# Altium footprint library Button_Switch_SMD.PcbLib: 169 footprints (part 5 of 12)
Each footprint in its own frame and in the unit in brackets; x right, y up, seen from the top. Pads: shape width x height; smd on the part's side, far side on the other; paste and mask are expansions set on the pad; w line width, h text height; cw(c..) or ccw(c..) is an arc to the next point about the centre after c.
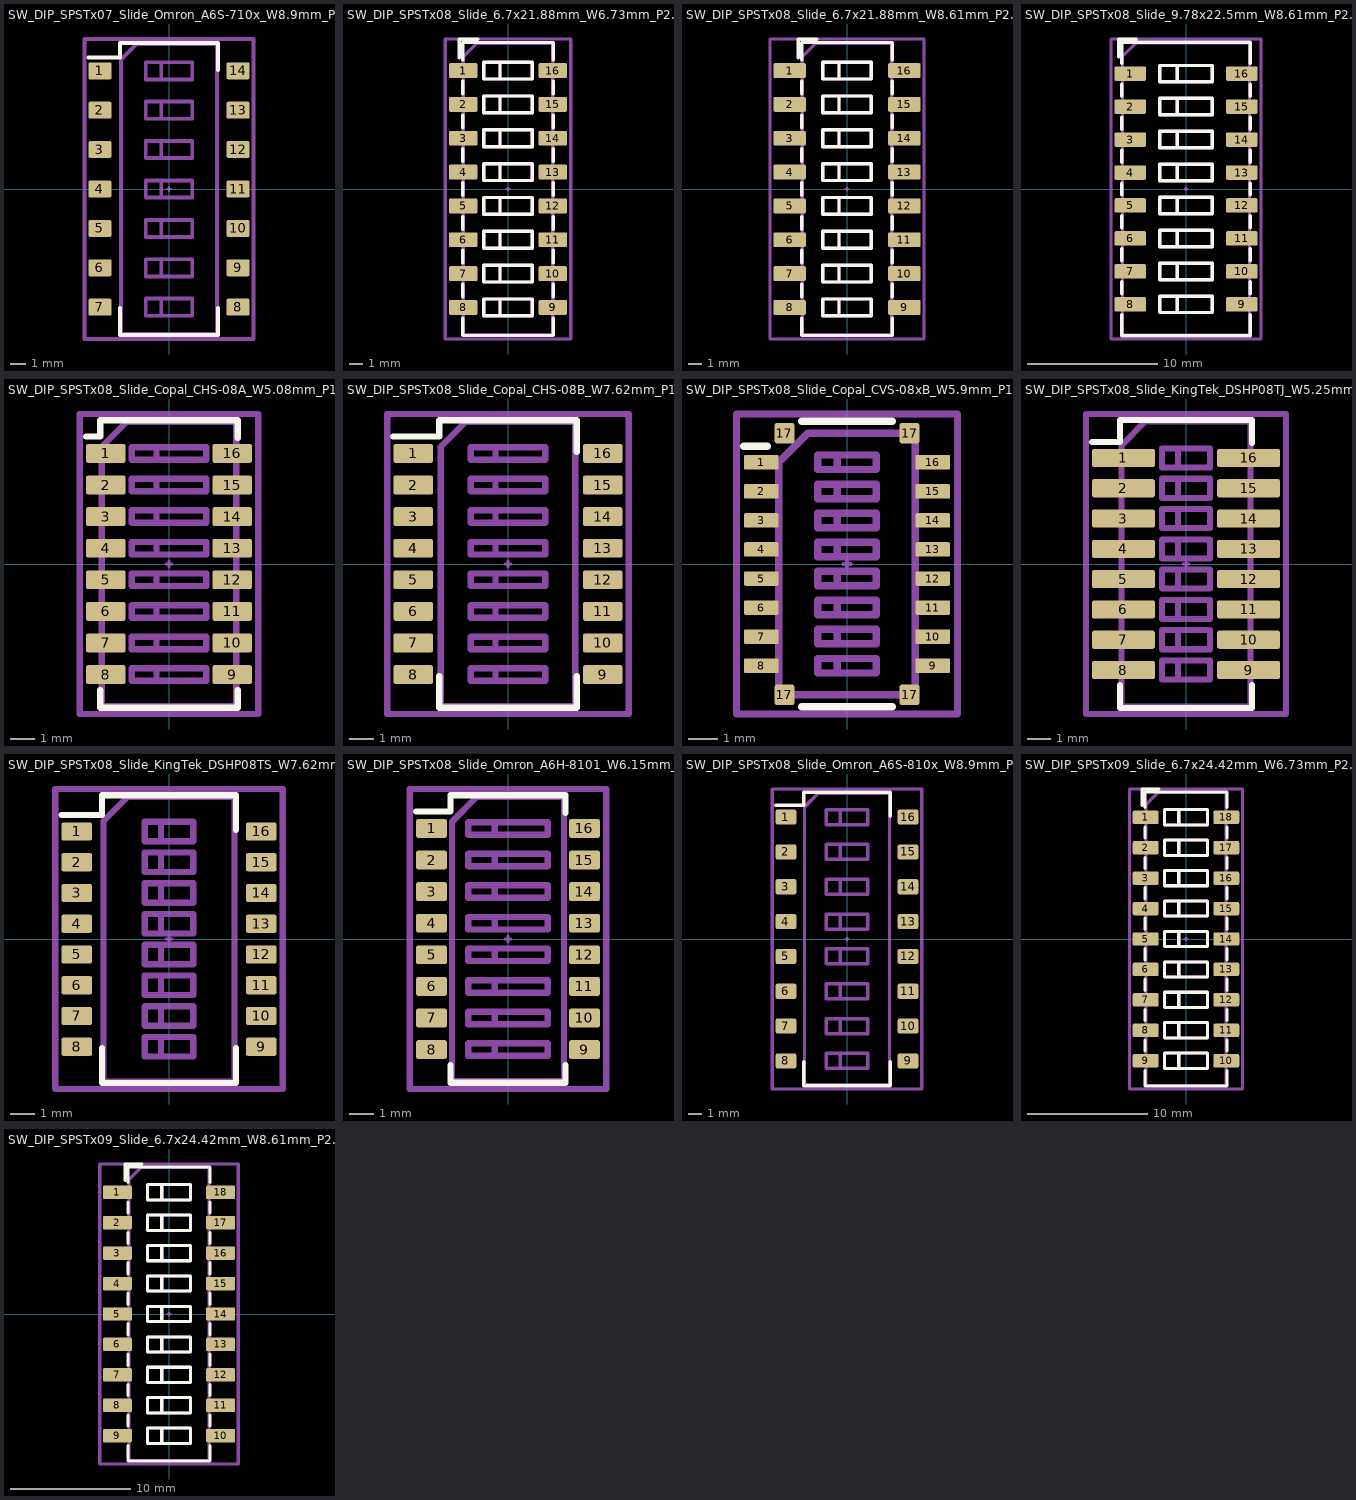
[diagram p4: the footprints below, top view; thin cyan lines are the x and y axes]

## SW_DIP_SPSTx07_Slide_Omron_A6S-710x_W8.9mm_P2.54mm [mm] "SW_DIP_SPSTx07_Slide_Omron_A6S-710x_W8.9mm_P2.54mm"
pads (14):
  rrect23% 1.5x1.1 smd: 1(-4.45,7.62) 2(-4.45,5.08) 3(-4.45,2.54) 4(-4.45,0) 5(-4.45,-2.54) 6(-4.45,-5.08) 7(-4.45,-7.62) 8(4.45,-7.62) 9(4.45,-5.08) 10(4.45,-2.54) 11(4.45,0) 12(4.45,2.54) 13(4.45,5.08) 14(4.45,7.62)
F.SilkS:
  lines w0.254: -5.2,8.47 -3.16,8.47 -3.16,9.42 3.16,9.42 3.16,7.68 ; -3.16,-7.68 -3.16,-9.42 3.16,-9.42 3.16,-7.68
Top Component Center:
  lines w0.127: -0.127,0 0.127,0 ; 0,-0.127 0,0.127
Top Assembly:
  lines w0.254: -1.5,-8.17 -1.5,-7.07 ; -1.5,-8.17 -0.5,-8.17 ; -1.5,-8.17 -1.5,-7.07 ; -1.5,-8.17 1.5,-8.17 1.5,-7.07 -1.5,-7.07 ; -1.5,-7.07 -0.5,-7.07 ; -1.5,-5.63 -1.5,-4.53 ; -1.5,-5.63 -0.5,-5.63 ; -1.5,-5.63 -1.5,-4.53 ; -1.5,-5.63 1.5,-5.63 1.5,-4.53 -1.5,-4.53 ; -1.5,-4.53 -0.5,-4.53 ; -1.5,-3.09 -1.5,-1.99 ; -1.5,-3.09 -0.5,-3.09 ; -1.5,-3.09 -1.5,-1.99 ; -1.5,-3.09 1.5,-3.09 1.5,-1.99 -1.5,-1.99 ; -1.5,-1.99 -0.5,-1.99 ; -1.5,-0.55 -1.5,0.55 ; -1.5,-0.55 -0.5,-0.55 ; -1.5,-0.55 -1.5,0.55 ; -1.5,-0.55 1.5,-0.55 1.5,0.55 -1.5,0.55 ; -1.5,0.55 -0.5,0.55 ; -1.5,1.99 -1.5,3.09 ; -1.5,1.99 -0.5,1.99 ; -1.5,1.99 -1.5,3.09 ; -1.5,1.99 1.5,1.99 1.5,3.09 -1.5,3.09 ; -1.5,3.09 -0.5,3.09 ; -1.5,4.53 -1.5,5.63 ; -1.5,4.53 -0.5,4.53 ; -1.5,4.53 -1.5,5.63 ; -1.5,4.53 1.5,4.53 1.5,5.63 -1.5,5.63 ; -1.5,5.63 -0.5,5.63 ; -1.5,7.07 -1.5,8.17 ; -1.5,7.07 -0.5,7.07 ; -1.5,7.07 -1.5,8.17 ; -1.5,7.07 1.5,7.07 1.5,8.17 -1.5,8.17 ; -1.5,8.17 -0.5,8.17 ; -0.5,-8.17 -0.5,-7.07 ; -0.5,-8.17 -0.5,-7.07 ; -0.5,-5.63 -0.5,-4.53 ; -0.5,-5.63 -0.5,-4.53 ; -0.5,-3.09 -0.5,-1.99 ; -0.5,-3.09 -0.5,-1.99 ; -0.5,-0.55 -0.5,0.55 ; -0.5,-0.55 -0.5,0.55 ; -0.5,1.99 -0.5,3.09 ; -0.5,1.99 -0.5,3.09 ; -0.5,4.53 -0.5,5.63 ; -0.5,4.53 -0.5,5.63 ; -0.5,7.07 -0.5,8.17 ; -0.5,7.07 -0.5,8.17 ; -3.1,-9.36 -3.1,8.36 -2.1,9.36 3.1,9.36 3.1,-9.36 -3.1,-9.36
  text "on" at -0.59,8.378 h0.8
Top Courtyard:
  lines w0.254: -5.45,-9.67 -5.45,9.67 5.45,9.67 5.45,-9.67 -5.45,-9.67
Top Designator:
  text ".Designator" at -2.504,3.559 h1.52
3D body "SW_DIP_SPSTx07_Slide_Omron_A6S-710x_W8.9mm_P2.54mm.step": height 3.1, standoff 0.03, extent -4.9,-9.36 4.9,9.36

## SW_DIP_SPSTx08_Slide_6.7x21.88mm_W6.73mm_P2.54mm_LowProfile_JPin [mm] "SW_DIP_SPSTx08_Slide_6.7x21.88mm_W6.73mm_P2.54mm_LowProfile_JPin"
pads (16):
  rrect22% 2.16x1.12 smd: 1(-3.365,8.89) 2(-3.365,6.35) 3(-3.365,3.81) 4(-3.365,1.27) 5(-3.365,-1.27) 6(-3.365,-3.81) 7(-3.365,-6.35) 8(-3.365,-8.89) 9(3.365,-8.89) 10(3.365,-6.35) 11(3.365,-3.81) 12(3.365,-1.27) 13(3.365,1.27) 14(3.365,3.81) 15(3.365,6.35) 16(3.365,8.89)
F.SilkS:
  lines w0.254: -3.65,9.857 -3.65,11.24 -2.267,11.24 ; -3.41,-9.69 -3.41,-11 3.41,-11 3.41,-9.69 ; -3.41,-8.09 -3.41,-7.15 ; -3.41,-5.55 -3.41,-4.61 ; -3.41,-3.01 -3.41,-2.07 ; -3.41,-0.47 -3.41,0.47 ; -3.41,2.07 -3.41,3.01 ; -3.41,4.61 -3.41,5.55 ; -3.41,7.15 -3.41,8.09 ; -3.41,9.69 -3.41,11 3.41,11 3.41,9.69 ; 3.41,-8.09 3.41,-7.15 ; 3.41,-5.55 3.41,-4.61 ; 3.41,-3.01 3.41,-2.07 ; 3.41,-0.47 3.41,0.47 ; 3.41,2.07 3.41,3.01 ; 3.41,4.61 3.41,5.55 ; 3.41,7.15 3.41,8.09 ; -1.81,-9.525 1.81,-9.525 1.81,-8.255 -1.81,-8.255 ; -1.81,-9.525 -1.81,-8.255 ; -1.81,-9.525 -0.603,-9.525 ; -1.81,-9.525 -1.81,-8.255 ; -1.81,-8.255 -0.603,-8.255 ; -1.81,-6.985 1.81,-6.985 1.81,-5.715 -1.81,-5.715 ; -1.81,-6.985 -1.81,-5.715 ; -1.81,-6.985 -0.603,-6.985 ; -1.81,-6.985 -1.81,-5.715 ; -1.81,-5.715 -0.603,-5.715 ; -1.81,-4.445 1.81,-4.445 1.81,-3.175 -1.81,-3.175 ; -1.81,-4.445 -1.81,-3.175 ; -1.81,-4.445 -0.603,-4.445 ; -1.81,-4.445 -1.81,-3.175 ; -1.81,-3.175 -0.603,-3.175 ; -1.81,-1.905 1.81,-1.905 1.81,-0.635 -1.81,-0.635 ; -1.81,-1.905 -1.81,-0.635 ; -1.81,-1.905 -0.603,-1.905 ; -1.81,-1.905 -1.81,-0.635 ; -1.81,-0.635 -0.603,-0.635 ; -1.81,0.635 1.81,0.635 1.81,1.905 -1.81,1.905 ; -1.81,0.635 -1.81,1.905 ; -1.81,0.635 -0.603,0.635 ; -1.81,0.635 -1.81,1.905 ; -1.81,1.905 -0.603,1.905 ; -1.81,3.175 1.81,3.175 1.81,4.445 -1.81,4.445 ; -1.81,3.175 -1.81,4.445 ; -1.81,3.175 -0.603,3.175 ; -1.81,3.175 -1.81,4.445 ; -1.81,4.445 -0.603,4.445 ; -1.81,5.715 1.81,5.715 1.81,6.985 -1.81,6.985 ; -1.81,5.715 -1.81,6.985 ; -1.81,5.715 -0.603,5.715 ; -1.81,5.715 -1.81,6.985 ; -1.81,6.985 -0.603,6.985 ; -1.81,8.255 1.81,8.255 1.81,9.525 -1.81,9.525 ; -1.81,8.255 -1.81,9.525 ; -1.81,8.255 -0.603,8.255 ; -1.81,8.255 -1.81,9.525 ; -1.81,9.525 -0.603,9.525 ; -0.603,-9.525 -0.603,-8.255 ; -0.603,-9.525 -0.603,-8.255 ; -0.603,-6.985 -0.603,-5.715 ; -0.603,-6.985 -0.603,-5.715 ; -0.603,-4.445 -0.603,-3.175 ; -0.603,-4.445 -0.603,-3.175 ; -0.603,-1.905 -0.603,-0.635 ; -0.603,-1.905 -0.603,-0.635 ; -0.603,0.635 -0.603,1.905 ; -0.603,0.635 -0.603,1.905 ; -0.603,3.175 -0.603,4.445 ; -0.603,3.175 -0.603,4.445 ; -0.603,5.715 -0.603,6.985 ; -0.603,5.715 -0.603,6.985 ; -0.603,8.255 -0.603,9.525 ; -0.603,8.255 -0.603,9.525
Top Component Center:
  lines w0.127: -0.127,0 0.127,0 ; 0,-0.127 0,0.127
Top Assembly:
  lines w0.254: -1.81,-9.525 1.81,-9.525 1.81,-8.255 -1.81,-8.255 ; -1.81,-9.525 -1.81,-8.255 ; -1.81,-9.525 -0.603,-9.525 ; -1.81,-9.525 -1.81,-8.255 ; -1.81,-8.255 -0.603,-8.255 ; -1.81,-6.985 1.81,-6.985 1.81,-5.715 -1.81,-5.715 ; -1.81,-6.985 -1.81,-5.715 ; -1.81,-6.985 -0.603,-6.985 ; -1.81,-6.985 -1.81,-5.715 ; -1.81,-5.715 -0.603,-5.715 ; -1.81,-4.445 1.81,-4.445 1.81,-3.175 -1.81,-3.175 ; -1.81,-4.445 -1.81,-3.175 ; -1.81,-4.445 -0.603,-4.445 ; -1.81,-4.445 -1.81,-3.175 ; -1.81,-3.175 -0.603,-3.175 ; -1.81,-1.905 1.81,-1.905 1.81,-0.635 -1.81,-0.635 ; -1.81,-1.905 -1.81,-0.635 ; -1.81,-1.905 -0.603,-1.905 ; -1.81,-1.905 -1.81,-0.635 ; -1.81,-0.635 -0.603,-0.635 ; -1.81,0.635 1.81,0.635 1.81,1.905 -1.81,1.905 ; -1.81,0.635 -1.81,1.905 ; -1.81,0.635 -0.603,0.635 ; -1.81,0.635 -1.81,1.905 ; -1.81,1.905 -0.603,1.905 ; -1.81,3.175 1.81,3.175 1.81,4.445 -1.81,4.445 ; -1.81,3.175 -1.81,4.445 ; -1.81,3.175 -0.603,3.175 ; -1.81,3.175 -1.81,4.445 ; -1.81,4.445 -0.603,4.445 ; -1.81,5.715 1.81,5.715 1.81,6.985 -1.81,6.985 ; -1.81,5.715 -1.81,6.985 ; -1.81,5.715 -0.603,5.715 ; -1.81,5.715 -1.81,6.985 ; -1.81,6.985 -0.603,6.985 ; -1.81,8.255 1.81,8.255 1.81,9.525 -1.81,9.525 ; -1.81,8.255 -1.81,9.525 ; -1.81,8.255 -0.603,8.255 ; -1.81,8.255 -1.81,9.525 ; -1.81,9.525 -0.603,9.525 ; -0.603,-9.525 -0.603,-8.255 ; -0.603,-9.525 -0.603,-8.255 ; -0.603,-6.985 -0.603,-5.715 ; -0.603,-6.985 -0.603,-5.715 ; -0.603,-4.445 -0.603,-3.175 ; -0.603,-4.445 -0.603,-3.175 ; -0.603,-1.905 -0.603,-0.635 ; -0.603,-1.905 -0.603,-0.635 ; -0.603,0.635 -0.603,1.905 ; -0.603,0.635 -0.603,1.905 ; -0.603,3.175 -0.603,4.445 ; -0.603,3.175 -0.603,4.445 ; -0.603,5.715 -0.603,6.985 ; -0.603,5.715 -0.603,6.985 ; -0.603,8.255 -0.603,9.525 ; -0.603,8.255 -0.603,9.525 ; -3.35,-10.94 3.35,-10.94 3.35,10.94 -2.35,10.94 -3.35,9.94 -3.35,-10.94
  text "on" at 0.233,9.846 h0.8
Top Courtyard:
  lines w0.254: -4.7,-11.26 4.7,-11.26 4.7,11.26 -4.7,11.26 -4.7,-11.26
Top Designator:
  text ".Designator" at -3.432,-0.345 h1.52
3D body "SW_DIP_SPSTx08_Slide_6.7x21.88mm_W6.73mm_P2.54mm_LowProfile_JPin.step": height 3.2, standoff -0.1, extent -3.45,-10.94 3.45,10.94

## SW_DIP_SPSTx08_Slide_6.7x21.88mm_W8.61mm_P2.54mm_LowProfile [mm] "SW_DIP_SPSTx08_Slide_6.7x21.88mm_W8.61mm_P2.54mm_LowProfile"
pads (16):
  rrect22% 2.44x1.12 smd: 1(-4.305,8.89) 2(-4.305,6.35) 3(-4.305,3.81) 4(-4.305,1.27) 5(-4.305,-1.27) 6(-4.305,-3.81) 7(-4.305,-6.35) 8(-4.305,-8.89) 9(4.305,-8.89) 10(4.305,-6.35) 11(4.305,-3.81) 12(4.305,-1.27) 13(4.305,1.27) 14(4.305,3.81) 15(4.305,6.35) 16(4.305,8.89)
F.SilkS:
  lines w0.254: -3.65,9.857 -3.65,11.24 -2.267,11.24 ; -3.41,-9.69 -3.41,-11 3.41,-11 3.41,-9.69 ; -3.41,-8.09 -3.41,-7.15 ; -3.41,-5.55 -3.41,-4.61 ; -3.41,-3.01 -3.41,-2.07 ; -3.41,-0.47 -3.41,0.47 ; -3.41,2.07 -3.41,3.01 ; -3.41,4.61 -3.41,5.55 ; -3.41,7.15 -3.41,8.09 ; -3.41,9.69 -3.41,11 3.41,11 3.41,9.69 ; 3.41,-8.09 3.41,-7.15 ; 3.41,-5.55 3.41,-4.61 ; 3.41,-3.01 3.41,-2.07 ; 3.41,-0.47 3.41,0.47 ; 3.41,2.07 3.41,3.01 ; 3.41,4.61 3.41,5.55 ; 3.41,7.15 3.41,8.09 ; -1.81,-9.525 -1.81,-8.255 ; -1.81,-9.525 -0.603,-9.525 ; -1.81,-9.525 -1.81,-8.255 ; -1.81,-9.525 1.81,-9.525 1.81,-8.255 -1.81,-8.255 ; -1.81,-8.255 -0.603,-8.255 ; -1.81,-6.985 -1.81,-5.715 ; -1.81,-6.985 -0.603,-6.985 ; -1.81,-6.985 -1.81,-5.715 ; -1.81,-6.985 1.81,-6.985 1.81,-5.715 -1.81,-5.715 ; -1.81,-5.715 -0.603,-5.715 ; -1.81,-4.445 -1.81,-3.175 ; -1.81,-4.445 -0.603,-4.445 ; -1.81,-4.445 -1.81,-3.175 ; -1.81,-4.445 1.81,-4.445 1.81,-3.175 -1.81,-3.175 ; -1.81,-3.175 -0.603,-3.175 ; -1.81,-1.905 -1.81,-0.635 ; -1.81,-1.905 -0.603,-1.905 ; -1.81,-1.905 -1.81,-0.635 ; -1.81,-1.905 1.81,-1.905 1.81,-0.635 -1.81,-0.635 ; -1.81,-0.635 -0.603,-0.635 ; -1.81,0.635 -1.81,1.905 ; -1.81,0.635 -0.603,0.635 ; -1.81,0.635 -1.81,1.905 ; -1.81,0.635 1.81,0.635 1.81,1.905 -1.81,1.905 ; -1.81,1.905 -0.603,1.905 ; -1.81,3.175 -1.81,4.445 ; -1.81,3.175 -0.603,3.175 ; -1.81,3.175 -1.81,4.445 ; -1.81,3.175 1.81,3.175 1.81,4.445 -1.81,4.445 ; -1.81,4.445 -0.603,4.445 ; -1.81,5.715 -1.81,6.985 ; -1.81,5.715 -0.603,5.715 ; -1.81,5.715 -1.81,6.985 ; -1.81,5.715 1.81,5.715 1.81,6.985 -1.81,6.985 ; -1.81,6.985 -0.603,6.985 ; -1.81,8.255 -1.81,9.525 ; -1.81,8.255 -0.603,8.255 ; -1.81,8.255 -1.81,9.525 ; -1.81,8.255 1.81,8.255 1.81,9.525 -1.81,9.525 ; -1.81,9.525 -0.603,9.525 ; -0.603,-9.525 -0.603,-8.255 ; -0.603,-9.525 -0.603,-8.255 ; -0.603,-6.985 -0.603,-5.715 ; -0.603,-6.985 -0.603,-5.715 ; -0.603,-4.445 -0.603,-3.175 ; -0.603,-4.445 -0.603,-3.175 ; -0.603,-1.905 -0.603,-0.635 ; -0.603,-1.905 -0.603,-0.635 ; -0.603,0.635 -0.603,1.905 ; -0.603,0.635 -0.603,1.905 ; -0.603,3.175 -0.603,4.445 ; -0.603,3.175 -0.603,4.445 ; -0.603,5.715 -0.603,6.985 ; -0.603,5.715 -0.603,6.985 ; -0.603,8.255 -0.603,9.525 ; -0.603,8.255 -0.603,9.525
Top Component Center:
  lines w0.127: -0.127,0 0.127,0 ; 0,-0.127 0,0.127
Top Assembly:
  lines w0.254: -1.81,-9.525 -1.81,-8.255 ; -1.81,-9.525 -0.603,-9.525 ; -1.81,-9.525 -1.81,-8.255 ; -1.81,-9.525 1.81,-9.525 1.81,-8.255 -1.81,-8.255 ; -1.81,-8.255 -0.603,-8.255 ; -1.81,-6.985 -1.81,-5.715 ; -1.81,-6.985 -0.603,-6.985 ; -1.81,-6.985 -1.81,-5.715 ; -1.81,-6.985 1.81,-6.985 1.81,-5.715 -1.81,-5.715 ; -1.81,-5.715 -0.603,-5.715 ; -1.81,-4.445 -1.81,-3.175 ; -1.81,-4.445 -0.603,-4.445 ; -1.81,-4.445 -1.81,-3.175 ; -1.81,-4.445 1.81,-4.445 1.81,-3.175 -1.81,-3.175 ; -1.81,-3.175 -0.603,-3.175 ; -1.81,-1.905 -1.81,-0.635 ; -1.81,-1.905 -0.603,-1.905 ; -1.81,-1.905 -1.81,-0.635 ; -1.81,-1.905 1.81,-1.905 1.81,-0.635 -1.81,-0.635 ; -1.81,-0.635 -0.603,-0.635 ; -1.81,0.635 -1.81,1.905 ; -1.81,0.635 -0.603,0.635 ; -1.81,0.635 -1.81,1.905 ; -1.81,0.635 1.81,0.635 1.81,1.905 -1.81,1.905 ; -1.81,1.905 -0.603,1.905 ; -1.81,3.175 -1.81,4.445 ; -1.81,3.175 -0.603,3.175 ; -1.81,3.175 -1.81,4.445 ; -1.81,3.175 1.81,3.175 1.81,4.445 -1.81,4.445 ; -1.81,4.445 -0.603,4.445 ; -1.81,5.715 -1.81,6.985 ; -1.81,5.715 -0.603,5.715 ; -1.81,5.715 -1.81,6.985 ; -1.81,5.715 1.81,5.715 1.81,6.985 -1.81,6.985 ; -1.81,6.985 -0.603,6.985 ; -1.81,8.255 -1.81,9.525 ; -1.81,8.255 -0.603,8.255 ; -1.81,8.255 -1.81,9.525 ; -1.81,8.255 1.81,8.255 1.81,9.525 -1.81,9.525 ; -1.81,9.525 -0.603,9.525 ; -0.603,-9.525 -0.603,-8.255 ; -0.603,-9.525 -0.603,-8.255 ; -0.603,-6.985 -0.603,-5.715 ; -0.603,-6.985 -0.603,-5.715 ; -0.603,-4.445 -0.603,-3.175 ; -0.603,-4.445 -0.603,-3.175 ; -0.603,-1.905 -0.603,-0.635 ; -0.603,-1.905 -0.603,-0.635 ; -0.603,0.635 -0.603,1.905 ; -0.603,0.635 -0.603,1.905 ; -0.603,3.175 -0.603,4.445 ; -0.603,3.175 -0.603,4.445 ; -0.603,5.715 -0.603,6.985 ; -0.603,5.715 -0.603,6.985 ; -0.603,8.255 -0.603,9.525 ; -0.603,8.255 -0.603,9.525 ; -3.35,-10.94 -3.35,9.94 -2.35,10.94 3.35,10.94 3.35,-10.94 -3.35,-10.94
  text "on" at -0.237,9.846 h0.8
Top Courtyard:
  lines w0.254: -5.78,-11.26 -5.78,11.26 5.78,11.26 5.78,-11.26 -5.78,-11.26
Top Designator:
  text ".Designator" at -3.432,-0.345 h1.52
3D body "SW_DIP_SPSTx08_Slide_6.7x21.88mm_W8.61mm_P2.54mm_LowProfile.step": height 2.7, standoff 0, extent -4.305,-10.94 4.305,10.94

## SW_DIP_SPSTx08_Slide_9.78x22.5mm_W8.61mm_P2.54mm [mm] "SW_DIP_SPSTx08_Slide_9.78x22.5mm_W8.61mm_P2.54mm"
pads (16):
  rrect22% 2.44x1.12 smd: 1(-4.305,8.89) 2(-4.305,6.35) 3(-4.305,3.81) 4(-4.305,1.27) 5(-4.305,-1.27) 6(-4.305,-3.81) 7(-4.305,-6.35) 8(-4.305,-8.89) 9(4.305,-8.89) 10(4.305,-6.35) 11(4.305,-3.81) 12(4.305,-1.27) 13(4.305,1.27) 14(4.305,3.81) 15(4.305,6.35) 16(4.305,8.89)
F.SilkS:
  lines w0.254: -5.19,10.167 -5.19,11.55 -3.807,11.55 ; -4.95,-9.69 -4.95,-11.31 4.95,-11.31 4.95,-9.69 ; -4.95,-8.09 -4.95,-7.15 ; -4.95,-5.55 -4.95,-4.61 ; -4.95,-3.01 -4.95,-2.07 ; -4.95,-0.47 -4.95,0.47 ; -4.95,2.07 -4.95,3.01 ; -4.95,4.61 -4.95,5.55 ; -4.95,7.15 -4.95,8.09 ; -4.95,9.69 -4.95,11.31 4.95,11.31 4.95,9.69 ; 4.95,-8.09 4.95,-7.15 ; 4.95,-5.55 4.95,-4.61 ; 4.95,-3.01 4.95,-2.07 ; 4.95,-0.47 4.95,0.47 ; 4.95,2.07 4.95,3.01 ; 4.95,4.61 4.95,5.55 ; 4.95,7.15 4.95,8.09 ; -2.03,-9.525 -2.03,-8.255 ; -2.03,-9.525 -0.677,-9.525 ; -2.03,-9.525 -2.03,-8.255 ; -2.03,-9.525 2.03,-9.525 2.03,-8.255 -2.03,-8.255 ; -2.03,-8.255 -0.677,-8.255 ; -2.03,-6.985 -2.03,-5.715 ; -2.03,-6.985 -0.677,-6.985 ; -2.03,-6.985 -2.03,-5.715 ; -2.03,-6.985 2.03,-6.985 2.03,-5.715 -2.03,-5.715 ; -2.03,-5.715 -0.677,-5.715 ; -2.03,-4.445 -2.03,-3.175 ; -2.03,-4.445 -0.677,-4.445 ; -2.03,-4.445 -2.03,-3.175 ; -2.03,-4.445 2.03,-4.445 2.03,-3.175 -2.03,-3.175 ; -2.03,-3.175 -0.677,-3.175 ; -2.03,-1.905 -2.03,-0.635 ; -2.03,-1.905 -0.677,-1.905 ; -2.03,-1.905 -2.03,-0.635 ; -2.03,-1.905 2.03,-1.905 2.03,-0.635 -2.03,-0.635 ; -2.03,-0.635 -0.677,-0.635 ; -2.03,0.635 -2.03,1.905 ; -2.03,0.635 -0.677,0.635 ; -2.03,0.635 -2.03,1.905 ; -2.03,0.635 2.03,0.635 2.03,1.905 -2.03,1.905 ; -2.03,1.905 -0.677,1.905 ; -2.03,3.175 -2.03,4.445 ; -2.03,3.175 -0.677,3.175 ; -2.03,3.175 -2.03,4.445 ; -2.03,3.175 2.03,3.175 2.03,4.445 -2.03,4.445 ; -2.03,4.445 -0.677,4.445 ; -2.03,5.715 -2.03,6.985 ; -2.03,5.715 -0.677,5.715 ; -2.03,5.715 -2.03,6.985 ; -2.03,5.715 2.03,5.715 2.03,6.985 -2.03,6.985 ; -2.03,6.985 -0.677,6.985 ; -2.03,8.255 -2.03,9.525 ; -2.03,8.255 -0.677,8.255 ; -2.03,8.255 -2.03,9.525 ; -2.03,8.255 2.03,8.255 2.03,9.525 -2.03,9.525 ; -2.03,9.525 -0.677,9.525 ; -0.677,-9.525 -0.677,-8.255 ; -0.677,-9.525 -0.677,-8.255 ; -0.677,-6.985 -0.677,-5.715 ; -0.677,-6.985 -0.677,-5.715 ; -0.677,-4.445 -0.677,-3.175 ; -0.677,-4.445 -0.677,-3.175 ; -0.677,-1.905 -0.677,-0.635 ; -0.677,-1.905 -0.677,-0.635 ; -0.677,0.635 -0.677,1.905 ; -0.677,0.635 -0.677,1.905 ; -0.677,3.175 -0.677,4.445 ; -0.677,3.175 -0.677,4.445 ; -0.677,5.715 -0.677,6.985 ; -0.677,5.715 -0.677,6.985 ; -0.677,8.255 -0.677,9.525 ; -0.677,8.255 -0.677,9.525
Top Component Center:
  lines w0.127: -0.127,0 0.127,0 ; 0,-0.127 0,0.127
Top Assembly:
  lines w0.254: -2.03,-9.525 -2.03,-8.255 ; -2.03,-9.525 -0.677,-9.525 ; -2.03,-9.525 -2.03,-8.255 ; -2.03,-9.525 2.03,-9.525 2.03,-8.255 -2.03,-8.255 ; -2.03,-8.255 -0.677,-8.255 ; -2.03,-6.985 -2.03,-5.715 ; -2.03,-6.985 -0.677,-6.985 ; -2.03,-6.985 -2.03,-5.715 ; -2.03,-6.985 2.03,-6.985 2.03,-5.715 -2.03,-5.715 ; -2.03,-5.715 -0.677,-5.715 ; -2.03,-4.445 -2.03,-3.175 ; -2.03,-4.445 -0.677,-4.445 ; -2.03,-4.445 -2.03,-3.175 ; -2.03,-4.445 2.03,-4.445 2.03,-3.175 -2.03,-3.175 ; -2.03,-3.175 -0.677,-3.175 ; -2.03,-1.905 -2.03,-0.635 ; -2.03,-1.905 -0.677,-1.905 ; -2.03,-1.905 -2.03,-0.635 ; -2.03,-1.905 2.03,-1.905 2.03,-0.635 -2.03,-0.635 ; -2.03,-0.635 -0.677,-0.635 ; -2.03,0.635 -2.03,1.905 ; -2.03,0.635 -0.677,0.635 ; -2.03,0.635 -2.03,1.905 ; -2.03,0.635 2.03,0.635 2.03,1.905 -2.03,1.905 ; -2.03,1.905 -0.677,1.905 ; -2.03,3.175 -2.03,4.445 ; -2.03,3.175 -0.677,3.175 ; -2.03,3.175 -2.03,4.445 ; -2.03,3.175 2.03,3.175 2.03,4.445 -2.03,4.445 ; -2.03,4.445 -0.677,4.445 ; -2.03,5.715 -2.03,6.985 ; -2.03,5.715 -0.677,5.715 ; -2.03,5.715 -2.03,6.985 ; -2.03,5.715 2.03,5.715 2.03,6.985 -2.03,6.985 ; -2.03,6.985 -0.677,6.985 ; -2.03,8.255 -2.03,9.525 ; -2.03,8.255 -0.677,8.255 ; -2.03,8.255 -2.03,9.525 ; -2.03,8.255 2.03,8.255 2.03,9.525 -2.03,9.525 ; -2.03,9.525 -0.677,9.525 ; -0.677,-9.525 -0.677,-8.255 ; -0.677,-9.525 -0.677,-8.255 ; -0.677,-6.985 -0.677,-5.715 ; -0.677,-6.985 -0.677,-5.715 ; -0.677,-4.445 -0.677,-3.175 ; -0.677,-4.445 -0.677,-3.175 ; -0.677,-1.905 -0.677,-0.635 ; -0.677,-1.905 -0.677,-0.635 ; -0.677,0.635 -0.677,1.905 ; -0.677,0.635 -0.677,1.905 ; -0.677,3.175 -0.677,4.445 ; -0.677,3.175 -0.677,4.445 ; -0.677,5.715 -0.677,6.985 ; -0.677,5.715 -0.677,6.985 ; -0.677,8.255 -0.677,9.525 ; -0.677,8.255 -0.677,9.525 ; -4.89,-11.25 -4.89,10.25 -3.89,11.25 4.89,11.25 4.89,-11.25 -4.89,-11.25
  text "on" at 0.643,10.001 h0.8
Top Courtyard:
  lines w0.254: -5.78,-11.56 -5.78,11.56 5.78,11.56 5.78,-11.56 -5.78,-11.56
Top Designator:
  text ".Designator" at -3.432,-0.345 h1.52
3D body "SW_DIP_SPSTx08_Slide_9.78x22.5mm_W8.61mm_P2.54mm.step": height 8.6, standoff 0, extent -5.2,-11.25 5.2,11.25

## SW_DIP_SPSTx08_Slide_Copal_CHS-08A_W5.08mm_P1.27mm_JPin [mm] "SW_DIP_SPSTx08_Slide_Copal_CHS-08A_W5.08mm_P1.27mm_JPin"
pads (16):
  rrect25% 1.6x0.76 smd: 1(-2.54,4.445) 2(-2.54,3.175) 3(-2.54,1.905) 4(-2.54,0.635) 5(-2.54,-0.635) 6(-2.54,-1.905) 7(-2.54,-3.175) 8(-2.54,-4.445) 9(2.54,-4.445) 10(2.54,-3.175) 11(2.54,-1.905) 12(2.54,-0.635) 13(2.54,0.635) 14(2.54,1.905) 15(2.54,3.175) 16(2.54,4.445)
F.SilkS:
  lines w0.254: -3.34,5.125 -2.76,5.125 -2.76,5.775 2.76,5.775 2.76,5.065 ; -2.76,-5.065 -2.76,-5.775 2.76,-5.775 2.76,-5.065
Top Component Center:
  lines w0.127: -0.127,0 0.127,0 ; 0,-0.127 0,0.127
Top Assembly:
  lines w0.254: -1.5,-4.695 -1.5,-4.195 ; -1.5,-4.695 -0.5,-4.695 ; -1.5,-4.695 -1.5,-4.195 ; -1.5,-4.695 1.5,-4.695 1.5,-4.195 -1.5,-4.195 ; -1.5,-4.195 -0.5,-4.195 ; -1.5,-3.425 -1.5,-2.925 ; -1.5,-3.425 -0.5,-3.425 ; -1.5,-3.425 -1.5,-2.925 ; -1.5,-3.425 1.5,-3.425 1.5,-2.925 -1.5,-2.925 ; -1.5,-2.925 -0.5,-2.925 ; -1.5,-2.155 -1.5,-1.655 ; -1.5,-2.155 -0.5,-2.155 ; -1.5,-2.155 -1.5,-1.655 ; -1.5,-2.155 1.5,-2.155 1.5,-1.655 -1.5,-1.655 ; -1.5,-1.655 -0.5,-1.655 ; -1.5,-0.885 -1.5,-0.385 ; -1.5,-0.885 -0.5,-0.885 ; -1.5,-0.885 -1.5,-0.385 ; -1.5,-0.885 1.5,-0.885 1.5,-0.385 -1.5,-0.385 ; -1.5,-0.385 -0.5,-0.385 ; -1.5,0.385 -1.5,0.885 ; -1.5,0.385 -0.5,0.385 ; -1.5,0.385 -1.5,0.885 ; -1.5,0.385 1.5,0.385 1.5,0.885 -1.5,0.885 ; -1.5,0.885 -0.5,0.885 ; -1.5,1.655 -1.5,2.155 ; -1.5,1.655 -0.5,1.655 ; -1.5,1.655 -1.5,2.155 ; -1.5,1.655 1.5,1.655 1.5,2.155 -1.5,2.155 ; -1.5,2.155 -0.5,2.155 ; -1.5,2.925 -1.5,3.425 ; -1.5,2.925 -0.5,2.925 ; -1.5,2.925 -1.5,3.425 ; -1.5,2.925 1.5,2.925 1.5,3.425 -1.5,3.425 ; -1.5,3.425 -0.5,3.425 ; -1.5,4.195 -1.5,4.695 ; -1.5,4.195 -0.5,4.195 ; -1.5,4.195 -1.5,4.695 ; -1.5,4.195 1.5,4.195 1.5,4.695 -1.5,4.695 ; -1.5,4.695 -0.5,4.695 ; -0.5,-4.695 -0.5,-4.195 ; -0.5,-4.695 -0.5,-4.195 ; -0.5,-3.425 -0.5,-2.925 ; -0.5,-3.425 -0.5,-2.925 ; -0.5,-2.155 -0.5,-1.655 ; -0.5,-2.155 -0.5,-1.655 ; -0.5,-0.885 -0.5,-0.385 ; -0.5,-0.885 -0.5,-0.385 ; -0.5,0.385 -0.5,0.885 ; -0.5,0.385 -0.5,0.885 ; -0.5,1.655 -0.5,2.155 ; -0.5,1.655 -0.5,2.155 ; -0.5,2.925 -0.5,3.425 ; -0.5,2.925 -0.5,3.425 ; -0.5,4.195 -0.5,4.695 ; -0.5,4.195 -0.5,4.695 ; -2.7,-5.715 -2.7,4.715 -1.7,5.715 2.7,5.715 2.7,-5.715 -2.7,-5.715
  text "on" at 0.165,4.818 h0.8
Top Courtyard:
  lines w0.254: -3.59,-6.03 -3.59,6.03 3.59,6.03 3.59,-6.03 -3.59,-6.03
Top Designator:
  text ".Designator" at -0.345,3.432 h1.52
3D body "SW_DIP_SPSTx08_Slide_Copal_CHS-08A_W5.08mm_P1.27mm_JPin.step": height 2.65, standoff 0, extent -2.8,-5.695 2.8,5.695

## SW_DIP_SPSTx08_Slide_Copal_CHS-08B_W7.62mm_P1.27mm [mm] "SW_DIP_SPSTx08_Slide_Copal_CHS-08B_W7.62mm_P1.27mm"
pads (16):
  rrect25% 1.6x0.76 smd: 1(-3.81,4.445) 2(-3.81,3.175) 3(-3.81,1.905) 4(-3.81,0.635) 5(-3.81,-0.635) 6(-3.81,-1.905) 7(-3.81,-3.175) 8(-3.81,-4.445) 9(3.81,-4.445) 10(3.81,-3.175) 11(3.81,-1.905) 12(3.81,-0.635) 13(3.81,0.635) 14(3.81,1.905) 15(3.81,3.175) 16(3.81,4.445)
F.SilkS:
  lines w0.254: -4.61,5.125 -2.76,5.125 -2.76,5.775 2.76,5.775 2.76,4.505 ; -2.76,-4.505 -2.76,-5.775 2.76,-5.775 2.76,-4.505
Top Component Center:
  lines w0.127: -0.127,0 0.127,0 ; 0,-0.127 0,0.127
Top Assembly:
  lines w0.254: -1.5,-4.695 -1.5,-4.195 ; -1.5,-4.695 -0.5,-4.695 ; -1.5,-4.695 -1.5,-4.195 ; -1.5,-4.695 1.5,-4.695 1.5,-4.195 -1.5,-4.195 ; -1.5,-4.195 -0.5,-4.195 ; -1.5,-3.425 -1.5,-2.925 ; -1.5,-3.425 -0.5,-3.425 ; -1.5,-3.425 -1.5,-2.925 ; -1.5,-3.425 1.5,-3.425 1.5,-2.925 -1.5,-2.925 ; -1.5,-2.925 -0.5,-2.925 ; -1.5,-2.155 -1.5,-1.655 ; -1.5,-2.155 -0.5,-2.155 ; -1.5,-2.155 -1.5,-1.655 ; -1.5,-2.155 1.5,-2.155 1.5,-1.655 -1.5,-1.655 ; -1.5,-1.655 -0.5,-1.655 ; -1.5,-0.885 -1.5,-0.385 ; -1.5,-0.885 -0.5,-0.885 ; -1.5,-0.885 -1.5,-0.385 ; -1.5,-0.885 1.5,-0.885 1.5,-0.385 -1.5,-0.385 ; -1.5,-0.385 -0.5,-0.385 ; -1.5,0.385 -1.5,0.885 ; -1.5,0.385 -0.5,0.385 ; -1.5,0.385 -1.5,0.885 ; -1.5,0.385 1.5,0.385 1.5,0.885 -1.5,0.885 ; -1.5,0.885 -0.5,0.885 ; -1.5,1.655 -1.5,2.155 ; -1.5,1.655 -0.5,1.655 ; -1.5,1.655 -1.5,2.155 ; -1.5,1.655 1.5,1.655 1.5,2.155 -1.5,2.155 ; -1.5,2.155 -0.5,2.155 ; -1.5,2.925 -1.5,3.425 ; -1.5,2.925 -0.5,2.925 ; -1.5,2.925 -1.5,3.425 ; -1.5,2.925 1.5,2.925 1.5,3.425 -1.5,3.425 ; -1.5,3.425 -0.5,3.425 ; -1.5,4.195 -1.5,4.695 ; -1.5,4.195 -0.5,4.195 ; -1.5,4.195 -1.5,4.695 ; -1.5,4.195 1.5,4.195 1.5,4.695 -1.5,4.695 ; -1.5,4.695 -0.5,4.695 ; -0.5,-4.695 -0.5,-4.195 ; -0.5,-4.695 -0.5,-4.195 ; -0.5,-3.425 -0.5,-2.925 ; -0.5,-3.425 -0.5,-2.925 ; -0.5,-2.155 -0.5,-1.655 ; -0.5,-2.155 -0.5,-1.655 ; -0.5,-0.885 -0.5,-0.385 ; -0.5,-0.885 -0.5,-0.385 ; -0.5,0.385 -0.5,0.885 ; -0.5,0.385 -0.5,0.885 ; -0.5,1.655 -0.5,2.155 ; -0.5,1.655 -0.5,2.155 ; -0.5,2.925 -0.5,3.425 ; -0.5,2.925 -0.5,3.425 ; -0.5,4.195 -0.5,4.695 ; -0.5,4.195 -0.5,4.695 ; -2.7,-5.715 -2.7,4.715 -1.7,5.715 2.7,5.715 2.7,-5.715 -2.7,-5.715
  text "on" at -0.47,4.818 h0.8
Top Courtyard:
  lines w0.254: -4.86,-6.03 -4.86,6.03 4.86,6.03 4.86,-6.03 -4.86,-6.03
Top Designator:
  text ".Designator" at -2.377,3.305 h1.52
3D body "SW_DIP_SPSTx08_Slide_Copal_CHS-08B_W7.62mm_P1.27mm.step": height 2.6, standoff 0.03, extent -4,-5.695 4,5.695

## SW_DIP_SPSTx08_Slide_Copal_CVS-08xB_W5.9mm_P1mm [mm] "SW_DIP_SPSTx08_Slide_Copal_CVS-08xB_W5.9mm_P1mm"
pads (20):
  rrect25% 1.2x0.5 smd: 1(-2.95,3.5) 2(-2.95,2.5) 3(-2.95,1.5) 4(-2.95,0.5) 5(-2.95,-0.5) 6(-2.95,-1.5) 7(-2.95,-2.5) 8(-2.95,-3.5) 9(2.95,-3.5) 10(2.95,-2.5) 11(2.95,-1.5) 12(2.95,-0.5) 13(2.95,0.5) 14(2.95,1.5) 15(2.95,2.5) 16(2.95,3.5)
  rrect25% 0.7x0.7 smd: 17(-2.15,-4.5) 17(-2.15,4.5) 17(2.15,-4.5) 17(2.15,4.5)
F.SilkS:
  lines w0.254: -3.55,4.05 -2.74,4.05 ; -1.56,-4.91 1.56,-4.91 ; -1.56,4.91 1.56,4.91
Top Component Center:
  lines w0.127: -0.127,0 0.127,0 ; 0,-0.127 0,0.127
Top Assembly:
  lines w0.254: -1,-3.75 1,-3.75 1,-3.25 -1,-3.25 ; -1,-3.75 -1,-3.25 ; -1,-3.75 -0.333,-3.75 ; -1,-3.75 -1,-3.25 ; -1,-3.25 -0.333,-3.25 ; -1,-2.75 1,-2.75 1,-2.25 -1,-2.25 ; -1,-2.75 -1,-2.25 ; -1,-2.75 -0.333,-2.75 ; -1,-2.75 -1,-2.25 ; -1,-2.25 -0.333,-2.25 ; -1,-1.75 1,-1.75 1,-1.25 -1,-1.25 ; -1,-1.75 -1,-1.25 ; -1,-1.75 -0.333,-1.75 ; -1,-1.75 -1,-1.25 ; -1,-1.25 -0.333,-1.25 ; -1,-0.75 1,-0.75 1,-0.25 -1,-0.25 ; -1,-0.75 -1,-0.25 ; -1,-0.75 -0.333,-0.75 ; -1,-0.75 -1,-0.25 ; -1,-0.25 -0.333,-0.25 ; -1,0.25 1,0.25 1,0.75 -1,0.75 ; -1,0.25 -1,0.75 ; -1,0.25 -0.333,0.25 ; -1,0.25 -1,0.75 ; -1,0.75 -0.333,0.75 ; -1,1.25 1,1.25 1,1.75 -1,1.75 ; -1,1.25 -1,1.75 ; -1,1.25 -0.333,1.25 ; -1,1.25 -1,1.75 ; -1,1.75 -0.333,1.75 ; -1,2.25 1,2.25 1,2.75 -1,2.75 ; -1,2.25 -1,2.75 ; -1,2.25 -0.333,2.25 ; -1,2.25 -1,2.75 ; -1,2.75 -0.333,2.75 ; -1,3.25 1,3.25 1,3.75 -1,3.75 ; -1,3.25 -1,3.75 ; -1,3.25 -0.333,3.25 ; -1,3.25 -1,3.75 ; -1,3.75 -0.333,3.75 ; -0.333,-3.75 -0.333,-3.25 ; -0.333,-3.75 -0.333,-3.25 ; -0.333,-2.75 -0.333,-2.25 ; -0.333,-2.75 -0.333,-2.25 ; -0.333,-1.75 -0.333,-1.25 ; -0.333,-1.75 -0.333,-1.25 ; -0.333,-0.75 -0.333,-0.25 ; -0.333,-0.75 -0.333,-0.25 ; -0.333,0.25 -0.333,0.75 ; -0.333,0.25 -0.333,0.75 ; -0.333,1.25 -0.333,1.75 ; -0.333,1.25 -0.333,1.75 ; -0.333,2.25 -0.333,2.75 ; -0.333,2.25 -0.333,2.75 ; -0.333,3.25 -0.333,3.75 ; -0.333,3.25 -0.333,3.75 ; -2.35,-4.5 2.35,-4.5 2.35,4.5 -1.35,4.5 -2.35,3.5 -2.35,-4.5
  text "on" at -0.465,3.738 h0.8
Top Courtyard:
  lines w0.254: -3.8,-5.16 3.8,-5.16 3.8,5.16 -3.8,5.16 -3.8,-5.16
Top Designator:
  text ".Designator" at -1.996,3.432 h1.52
3D body "SW_DIP_SPSTx08_Slide_Copal_CVS-08xB_W5.9mm_P1mm.step": height 1.58, standoff 0.08, extent -3.05,-4.5 3.05,4.5

## SW_DIP_SPSTx08_Slide_KingTek_DSHP08TJ_W5.25mm_P1.27mm_JPin [mm] "SW_DIP_SPSTx08_Slide_KingTek_DSHP08TJ_W5.25mm_P1.27mm_JPin"
pads (16):
  rrect25% 2.65x0.76 smd: 1(-2.625,4.445) 2(-2.625,3.175) 3(-2.625,1.905) 4(-2.625,0.635) 5(-2.625,-0.635) 6(-2.625,-1.905) 7(-2.625,-3.175) 8(-2.625,-4.445) 9(2.625,-4.445) 10(2.625,-3.175) 11(2.625,-1.905) 12(2.625,-0.635) 13(2.625,0.635) 14(2.625,1.905) 15(2.625,3.175) 16(2.625,4.445)
F.SilkS:
  lines w0.254: -3.95,5.125 -2.76,5.125 -2.76,6.04 2.76,6.04 2.76,5.065 ; -2.76,-5.065 -2.76,-6.04 2.76,-6.04 2.76,-5.065
Top Component Center:
  lines w0.127: -0.127,0 0.127,0 ; 0,-0.127 0,0.127
Top Assembly:
  lines w0.254: -1,-4.845 -1,-4.045 ; -1,-4.845 -0.333,-4.845 ; -1,-4.845 -1,-4.045 ; -1,-4.845 1,-4.845 1,-4.045 -1,-4.045 ; -1,-4.045 -0.333,-4.045 ; -1,-3.575 -1,-2.775 ; -1,-3.575 -0.333,-3.575 ; -1,-3.575 -1,-2.775 ; -1,-3.575 1,-3.575 1,-2.775 -1,-2.775 ; -1,-2.775 -0.333,-2.775 ; -1,-2.305 -1,-1.505 ; -1,-2.305 -0.333,-2.305 ; -1,-2.305 -1,-1.505 ; -1,-2.305 1,-2.305 1,-1.505 -1,-1.505 ; -1,-1.505 -0.333,-1.505 ; -1,-1.035 -1,-0.235 ; -1,-1.035 -0.333,-1.035 ; -1,-1.035 -1,-0.235 ; -1,-1.035 1,-1.035 1,-0.235 -1,-0.235 ; -1,-0.235 -0.333,-0.235 ; -1,0.235 -1,1.035 ; -1,0.235 -0.333,0.235 ; -1,0.235 -1,1.035 ; -1,0.235 1,0.235 1,1.035 -1,1.035 ; -1,1.035 -0.333,1.035 ; -1,1.505 -1,2.305 ; -1,1.505 -0.333,1.505 ; -1,1.505 -1,2.305 ; -1,1.505 1,1.505 1,2.305 -1,2.305 ; -1,2.305 -0.333,2.305 ; -1,2.775 -1,3.575 ; -1,2.775 -0.333,2.775 ; -1,2.775 -1,3.575 ; -1,2.775 1,2.775 1,3.575 -1,3.575 ; -1,3.575 -0.333,3.575 ; -1,4.045 -1,4.845 ; -1,4.045 -0.333,4.045 ; -1,4.045 -1,4.845 ; -1,4.045 1,4.045 1,4.845 -1,4.845 ; -1,4.845 -0.333,4.845 ; -0.333,-4.845 -0.333,-4.045 ; -0.333,-4.845 -0.333,-4.045 ; -0.333,-3.575 -0.333,-2.775 ; -0.333,-3.575 -0.333,-2.775 ; -0.333,-2.305 -0.333,-1.505 ; -0.333,-2.305 -0.333,-1.505 ; -0.333,-1.035 -0.333,-0.235 ; -0.333,-1.035 -0.333,-0.235 ; -0.333,0.235 -0.333,1.035 ; -0.333,0.235 -0.333,1.035 ; -0.333,1.505 -0.333,2.305 ; -0.333,1.505 -0.333,2.305 ; -0.333,2.775 -0.333,3.575 ; -0.333,2.775 -0.333,3.575 ; -0.333,4.045 -0.333,4.845 ; -0.333,4.045 -0.333,4.845 ; -2.7,-5.98 -2.7,4.98 -1.7,5.98 2.7,5.98 2.7,-5.98 -2.7,-5.98
  text "on" at -0.127,5.026 h0.8
Top Courtyard:
  lines w0.254: -4.2,-6.29 -4.2,6.29 4.2,6.29 4.2,-6.29 -4.2,-6.29
Top Designator:
  text ".Designator" at -0.345,3.432 h1.52
3D body "SW_DIP_SPSTx08_Slide_KingTek_DSHP08TJ_W5.25mm_P1.27mm_JPin.step": height 2.4, standoff -0.05, extent -2.8,-5.88 2.8,5.88

## SW_DIP_SPSTx08_Slide_KingTek_DSHP08TS_W7.62mm_P1.27mm [mm] "SW_DIP_SPSTx08_Slide_KingTek_DSHP08TS_W7.62mm_P1.27mm"
pads (16):
  rrect25% 1.27x0.76 smd: 1(-3.81,4.445) 2(-3.81,3.175) 3(-3.81,1.905) 4(-3.81,0.635) 5(-3.81,-0.635) 6(-3.81,-1.905) 7(-3.81,-3.175) 8(-3.81,-4.445) 9(3.81,-4.445) 10(3.81,-3.175) 11(3.81,-1.905) 12(3.81,-0.635) 13(3.81,0.635) 14(3.81,1.905) 15(3.81,3.175) 16(3.81,4.445)
F.SilkS:
  lines w0.254: -4.445,5.125 -2.76,5.125 -2.76,5.94 2.76,5.94 2.76,4.505 ; -2.76,-4.505 -2.76,-5.94 2.76,-5.94 2.76,-4.505
Top Component Center:
  lines w0.127: -0.127,0 0.127,0 ; 0,-0.127 0,0.127
Top Assembly:
  lines w0.254: -1,-4.845 -1,-4.045 ; -1,-4.845 -0.333,-4.845 ; -1,-4.845 -1,-4.045 ; -1,-4.845 1,-4.845 1,-4.045 -1,-4.045 ; -1,-4.045 -0.333,-4.045 ; -1,-3.575 -1,-2.775 ; -1,-3.575 -0.333,-3.575 ; -1,-3.575 -1,-2.775 ; -1,-3.575 1,-3.575 1,-2.775 -1,-2.775 ; -1,-2.775 -0.333,-2.775 ; -1,-2.305 -1,-1.505 ; -1,-2.305 -0.333,-2.305 ; -1,-2.305 -1,-1.505 ; -1,-2.305 1,-2.305 1,-1.505 -1,-1.505 ; -1,-1.505 -0.333,-1.505 ; -1,-1.035 -1,-0.235 ; -1,-1.035 -0.333,-1.035 ; -1,-1.035 -1,-0.235 ; -1,-1.035 1,-1.035 1,-0.235 -1,-0.235 ; -1,-0.235 -0.333,-0.235 ; -1,0.235 -1,1.035 ; -1,0.235 -0.333,0.235 ; -1,0.235 -1,1.035 ; -1,0.235 1,0.235 1,1.035 -1,1.035 ; -1,1.035 -0.333,1.035 ; -1,1.505 -1,2.305 ; -1,1.505 -0.333,1.505 ; -1,1.505 -1,2.305 ; -1,1.505 1,1.505 1,2.305 -1,2.305 ; -1,2.305 -0.333,2.305 ; -1,2.775 -1,3.575 ; -1,2.775 -0.333,2.775 ; -1,2.775 -1,3.575 ; -1,2.775 1,2.775 1,3.575 -1,3.575 ; -1,3.575 -0.333,3.575 ; -1,4.045 -1,4.845 ; -1,4.045 -0.333,4.045 ; -1,4.045 -1,4.845 ; -1,4.045 1,4.045 1,4.845 -1,4.845 ; -1,4.845 -0.333,4.845 ; -0.333,-4.845 -0.333,-4.045 ; -0.333,-4.845 -0.333,-4.045 ; -0.333,-3.575 -0.333,-2.775 ; -0.333,-3.575 -0.333,-2.775 ; -0.333,-2.305 -0.333,-1.505 ; -0.333,-2.305 -0.333,-1.505 ; -0.333,-1.035 -0.333,-0.235 ; -0.333,-1.035 -0.333,-0.235 ; -0.333,0.235 -0.333,1.035 ; -0.333,0.235 -0.333,1.035 ; -0.333,1.505 -0.333,2.305 ; -0.333,1.505 -0.333,2.305 ; -0.333,2.775 -0.333,3.575 ; -0.333,2.775 -0.333,3.575 ; -0.333,4.045 -0.333,4.845 ; -0.333,4.045 -0.333,4.845 ; -2.7,-5.88 -2.7,4.88 -1.7,5.88 2.7,5.88 2.7,-5.88 -2.7,-5.88
  text "on" at -0.72,4.976 h0.8
Top Courtyard:
  lines w0.254: -4.7,-6.19 -4.7,6.2 4.7,6.2 4.7,-6.19 -4.7,-6.19
Top Designator:
  text ".Designator" at -2.25,3.432 h1.52
3D body "SW_DIP_SPSTx08_Slide_KingTek_DSHP08TS_W7.62mm_P1.27mm.step": height 2.45, standoff 0.08, extent -4.175,-5.88 4.175,5.88

## SW_DIP_SPSTx08_Slide_Omron_A6H-8101_W6.15mm_P1.27mm [mm] "SW_DIP_SPSTx08_Slide_Omron_A6H-8101_W6.15mm_P1.27mm"
pads (16):
  rrect25% 1.25x0.76 smd: 1(-3.075,4.445) 2(-3.075,3.175) 3(-3.075,1.905) 4(-3.075,0.635) 5(-3.075,-0.635) 6(-3.075,-1.905) 7(-3.075,-3.175) 8(-3.075,-4.445) 9(3.075,-4.445) 10(3.075,-3.175) 11(3.075,-1.905) 12(3.075,-0.635) 13(3.075,0.635) 14(3.075,1.905) 15(3.075,3.175) 16(3.075,4.445)
F.SilkS:
  lines w0.254: -3.7,5.125 -2.31,5.125 -2.31,5.775 2.31,5.775 2.31,5.065 ; -2.31,-5.065 -2.31,-5.775 2.31,-5.775 2.31,-5.065
Top Component Center:
  lines w0.127: -0.127,0 0.127,0 ; 0,-0.127 0,0.127
Top Assembly:
  lines w0.254: -1.6,-4.695 -1.6,-4.195 ; -1.6,-4.695 -0.533,-4.695 ; -1.6,-4.695 -1.6,-4.195 ; -1.6,-4.695 1.6,-4.695 1.6,-4.195 -1.6,-4.195 ; -1.6,-4.195 -0.533,-4.195 ; -1.6,-3.425 -1.6,-2.925 ; -1.6,-3.425 -0.533,-3.425 ; -1.6,-3.425 -1.6,-2.925 ; -1.6,-3.425 1.6,-3.425 1.6,-2.925 -1.6,-2.925 ; -1.6,-2.925 -0.533,-2.925 ; -1.6,-2.155 -1.6,-1.655 ; -1.6,-2.155 -0.533,-2.155 ; -1.6,-2.155 -1.6,-1.655 ; -1.6,-2.155 1.6,-2.155 1.6,-1.655 -1.6,-1.655 ; -1.6,-1.655 -0.533,-1.655 ; -1.6,-0.885 -1.6,-0.385 ; -1.6,-0.885 -0.533,-0.885 ; -1.6,-0.885 -1.6,-0.385 ; -1.6,-0.885 1.6,-0.885 1.6,-0.385 -1.6,-0.385 ; -1.6,-0.385 -0.533,-0.385 ; -1.6,0.385 -1.6,0.885 ; -1.6,0.385 -0.533,0.385 ; -1.6,0.385 -1.6,0.885 ; -1.6,0.385 1.6,0.385 1.6,0.885 -1.6,0.885 ; -1.6,0.885 -0.533,0.885 ; -1.6,1.655 -1.6,2.155 ; -1.6,1.655 -0.533,1.655 ; -1.6,1.655 -1.6,2.155 ; -1.6,1.655 1.6,1.655 1.6,2.155 -1.6,2.155 ; -1.6,2.155 -0.533,2.155 ; -1.6,2.925 -1.6,3.425 ; -1.6,2.925 -0.533,2.925 ; -1.6,2.925 -1.6,3.425 ; -1.6,2.925 1.6,2.925 1.6,3.425 -1.6,3.425 ; -1.6,3.425 -0.533,3.425 ; -1.6,4.195 -1.6,4.695 ; -1.6,4.195 -0.533,4.195 ; -1.6,4.195 -1.6,4.695 ; -1.6,4.195 1.6,4.195 1.6,4.695 -1.6,4.695 ; -1.6,4.695 -0.533,4.695 ; -0.533,-4.695 -0.533,-4.195 ; -0.533,-4.695 -0.533,-4.195 ; -0.533,-3.425 -0.533,-2.925 ; -0.533,-3.425 -0.533,-2.925 ; -0.533,-2.155 -0.533,-1.655 ; -0.533,-2.155 -0.533,-1.655 ; -0.533,-0.885 -0.533,-0.385 ; -0.533,-0.885 -0.533,-0.385 ; -0.533,0.385 -0.533,0.885 ; -0.533,0.385 -0.533,0.885 ; -0.533,1.655 -0.533,2.155 ; -0.533,1.655 -0.533,2.155 ; -0.533,2.925 -0.533,3.425 ; -0.533,2.925 -0.533,3.425 ; -0.533,4.195 -0.533,4.695 ; -0.533,4.195 -0.533,4.695 ; -2.25,-5.715 -2.25,4.715 -1.25,5.715 2.25,5.715 2.25,-5.715 -2.25,-5.715
  text "on" at 0.009,4.985 h0.46
Top Courtyard:
  lines w0.254: -3.95,-6.03 -3.95,6.03 3.95,6.03 3.95,-6.03 -3.95,-6.03
Top Designator:
  text ".Designator" at -0.345,3.432 h1.52
3D body "SW_DIP_SPSTx08_Slide_Omron_A6H-8101_W6.15mm_P1.27mm.step": height 1.55, standoff 0.03, extent -3.35,-5.695 3.35,5.695

## SW_DIP_SPSTx08_Slide_Omron_A6S-810x_W8.9mm_P2.54mm [mm] "SW_DIP_SPSTx08_Slide_Omron_A6S-810x_W8.9mm_P2.54mm"
pads (16):
  rrect23% 1.5x1.1 smd: 1(-4.45,8.89) 2(-4.45,6.35) 3(-4.45,3.81) 4(-4.45,1.27) 5(-4.45,-1.27) 6(-4.45,-3.81) 7(-4.45,-6.35) 8(-4.45,-8.89) 9(4.45,-8.89) 10(4.45,-6.35) 11(4.45,-3.81) 12(4.45,-1.27) 13(4.45,1.27) 14(4.45,3.81) 15(4.45,6.35) 16(4.45,8.89)
F.SilkS:
  lines w0.254: -5.2,9.74 -3.16,9.74 -3.16,10.69 3.16,10.69 3.16,8.95 ; -3.16,-8.95 -3.16,-10.69 3.16,-10.69 3.16,-8.95
Top Component Center:
  lines w0.127: -0.127,0 0.127,0 ; 0,-0.127 0,0.127
Top Assembly:
  lines w0.254: -1.5,-9.44 -1.5,-8.34 ; -1.5,-9.44 -0.5,-9.44 ; -1.5,-9.44 -1.5,-8.34 ; -1.5,-9.44 1.5,-9.44 1.5,-8.34 -1.5,-8.34 ; -1.5,-8.34 -0.5,-8.34 ; -1.5,-6.9 -1.5,-5.8 ; -1.5,-6.9 -0.5,-6.9 ; -1.5,-6.9 -1.5,-5.8 ; -1.5,-6.9 1.5,-6.9 1.5,-5.8 -1.5,-5.8 ; -1.5,-5.8 -0.5,-5.8 ; -1.5,-4.36 -1.5,-3.26 ; -1.5,-4.36 -0.5,-4.36 ; -1.5,-4.36 -1.5,-3.26 ; -1.5,-4.36 1.5,-4.36 1.5,-3.26 -1.5,-3.26 ; -1.5,-3.26 -0.5,-3.26 ; -1.5,-1.82 -1.5,-0.72 ; -1.5,-1.82 -0.5,-1.82 ; -1.5,-1.82 -1.5,-0.72 ; -1.5,-1.82 1.5,-1.82 1.5,-0.72 -1.5,-0.72 ; -1.5,-0.72 -0.5,-0.72 ; -1.5,0.72 -1.5,1.82 ; -1.5,0.72 -0.5,0.72 ; -1.5,0.72 -1.5,1.82 ; -1.5,0.72 1.5,0.72 1.5,1.82 -1.5,1.82 ; -1.5,1.82 -0.5,1.82 ; -1.5,3.26 -1.5,4.36 ; -1.5,3.26 -0.5,3.26 ; -1.5,3.26 -1.5,4.36 ; -1.5,3.26 1.5,3.26 1.5,4.36 -1.5,4.36 ; -1.5,4.36 -0.5,4.36 ; -1.5,5.8 -1.5,6.9 ; -1.5,5.8 -0.5,5.8 ; -1.5,5.8 -1.5,6.9 ; -1.5,5.8 1.5,5.8 1.5,6.9 -1.5,6.9 ; -1.5,6.9 -0.5,6.9 ; -1.5,8.34 -1.5,9.44 ; -1.5,8.34 -0.5,8.34 ; -1.5,8.34 -1.5,9.44 ; -1.5,8.34 1.5,8.34 1.5,9.44 -1.5,9.44 ; -1.5,9.44 -0.5,9.44 ; -0.5,-9.44 -0.5,-8.34 ; -0.5,-9.44 -0.5,-8.34 ; -0.5,-6.9 -0.5,-5.8 ; -0.5,-6.9 -0.5,-5.8 ; -0.5,-4.36 -0.5,-3.26 ; -0.5,-4.36 -0.5,-3.26 ; -0.5,-1.82 -0.5,-0.72 ; -0.5,-1.82 -0.5,-0.72 ; -0.5,0.72 -0.5,1.82 ; -0.5,0.72 -0.5,1.82 ; -0.5,3.26 -0.5,4.36 ; -0.5,3.26 -0.5,4.36 ; -0.5,5.8 -0.5,6.9 ; -0.5,5.8 -0.5,6.9 ; -0.5,8.34 -0.5,9.44 ; -0.5,8.34 -0.5,9.44 ; -3.1,-10.63 -3.1,9.63 -2.1,10.63 3.1,10.63 3.1,-10.63 -3.1,-10.63
  text "on" at -0.59,9.648 h0.8
Top Courtyard:
  lines w0.254: -5.45,-10.94 -5.45,10.94 5.45,10.94 5.45,-10.94 -5.45,-10.94
Top Designator:
  text ".Designator" at -3.432,-0.345 h1.52
3D body "SW_DIP_SPSTx08_Slide_Omron_A6S-810x_W8.9mm_P2.54mm.step": height 3.1, standoff 0.03, extent -4.9,-10.63 4.9,10.63

## SW_DIP_SPSTx09_Slide_6.7x24.42mm_W6.73mm_P2.54mm_LowProfile_JPin [mm] "SW_DIP_SPSTx09_Slide_6.7x24.42mm_W6.73mm_P2.54mm_LowProfile_JPin"
pads (18):
  rrect22% 2.16x1.12 smd: 1(-3.365,10.16) 2(-3.365,7.62) 3(-3.365,5.08) 4(-3.365,2.54) 5(-3.365,0) 6(-3.365,-2.54) 7(-3.365,-5.08) 8(-3.365,-7.62) 9(-3.365,-10.16) 10(3.365,-10.16) 11(3.365,-7.62) 12(3.365,-5.08) 13(3.365,-2.54) 14(3.365,0) 15(3.365,2.54) 16(3.365,5.08) 17(3.365,7.62) 18(3.365,10.16)
F.SilkS:
  lines w0.254: -3.65,11.127 -3.65,12.51 -2.267,12.51 ; -3.41,-10.96 -3.41,-12.27 3.41,-12.27 3.41,-10.96 ; -3.41,-9.36 -3.41,-8.42 ; -3.41,-6.82 -3.41,-5.88 ; -3.41,-4.28 -3.41,-3.34 ; -3.41,-1.74 -3.41,-0.8 ; -3.41,0.8 -3.41,1.74 ; -3.41,3.34 -3.41,4.28 ; -3.41,5.88 -3.41,6.82 ; -3.41,8.42 -3.41,9.36 ; -3.41,10.96 -3.41,12.27 3.41,12.27 3.41,10.96 ; 3.41,-9.36 3.41,-8.42 ; 3.41,-6.82 3.41,-5.88 ; 3.41,-4.28 3.41,-3.34 ; 3.41,-1.74 3.41,-0.8 ; 3.41,0.8 3.41,1.74 ; 3.41,3.34 3.41,4.28 ; 3.41,5.88 3.41,6.82 ; 3.41,8.42 3.41,9.36 ; -1.81,-10.795 -1.81,-9.525 ; -1.81,-10.795 -0.603,-10.795 ; -1.81,-10.795 -1.81,-9.525 ; -1.81,-10.795 1.81,-10.795 1.81,-9.525 -1.81,-9.525 ; -1.81,-9.525 -0.603,-9.525 ; -1.81,-8.255 -1.81,-6.985 ; -1.81,-8.255 -0.603,-8.255 ; -1.81,-8.255 -1.81,-6.985 ; -1.81,-8.255 1.81,-8.255 1.81,-6.985 -1.81,-6.985 ; -1.81,-6.985 -0.603,-6.985 ; -1.81,-5.715 -1.81,-4.445 ; -1.81,-5.715 -0.603,-5.715 ; -1.81,-5.715 -1.81,-4.445 ; -1.81,-5.715 1.81,-5.715 1.81,-4.445 -1.81,-4.445 ; -1.81,-4.445 -0.603,-4.445 ; -1.81,-3.175 -1.81,-1.905 ; -1.81,-3.175 -0.603,-3.175 ; -1.81,-3.175 -1.81,-1.905 ; -1.81,-3.175 1.81,-3.175 1.81,-1.905 -1.81,-1.905 ; -1.81,-1.905 -0.603,-1.905 ; -1.81,-0.635 -1.81,0.635 ; -1.81,-0.635 -0.603,-0.635 ; -1.81,-0.635 -1.81,0.635 ; -1.81,-0.635 1.81,-0.635 1.81,0.635 -1.81,0.635 ; -1.81,0.635 -0.603,0.635 ; -1.81,1.905 -1.81,3.175 ; -1.81,1.905 -0.603,1.905 ; -1.81,1.905 -1.81,3.175 ; -1.81,1.905 1.81,1.905 1.81,3.175 -1.81,3.175 ; -1.81,3.175 -0.603,3.175 ; -1.81,4.445 -1.81,5.715 ; -1.81,4.445 -0.603,4.445 ; -1.81,4.445 -1.81,5.715 ; -1.81,4.445 1.81,4.445 1.81,5.715 -1.81,5.715 ; -1.81,5.715 -0.603,5.715 ; -1.81,6.985 -1.81,8.255 ; -1.81,6.985 -0.603,6.985 ; -1.81,6.985 -1.81,8.255 ; -1.81,6.985 1.81,6.985 1.81,8.255 -1.81,8.255 ; -1.81,8.255 -0.603,8.255 ; -1.81,9.525 -1.81,10.795 ; -1.81,9.525 -0.603,9.525 ; -1.81,9.525 -1.81,10.795 ; -1.81,9.525 1.81,9.525 1.81,10.795 -1.81,10.795 ; -1.81,10.795 -0.603,10.795 ; -0.603,-10.795 -0.603,-9.525 ; -0.603,-10.795 -0.603,-9.525 ; -0.603,-8.255 -0.603,-6.985 ; -0.603,-8.255 -0.603,-6.985 ; -0.603,-5.715 -0.603,-4.445 ; -0.603,-5.715 -0.603,-4.445 ; -0.603,-3.175 -0.603,-1.905 ; -0.603,-3.175 -0.603,-1.905 ; -0.603,-0.635 -0.603,0.635 ; -0.603,-0.635 -0.603,0.635 ; -0.603,1.905 -0.603,3.175 ; -0.603,1.905 -0.603,3.175 ; -0.603,4.445 -0.603,5.715 ; -0.603,4.445 -0.603,5.715 ; -0.603,6.985 -0.603,8.255 ; -0.603,6.985 -0.603,8.255 ; -0.603,9.525 -0.603,10.795 ; -0.603,9.525 -0.603,10.795
Top Component Center:
  lines w0.127: -0.127,0 0.127,0 ; 0,-0.127 0,0.127
Top Assembly:
  lines w0.254: -1.81,-10.795 -1.81,-9.525 ; -1.81,-10.795 -0.603,-10.795 ; -1.81,-10.795 -1.81,-9.525 ; -1.81,-10.795 1.81,-10.795 1.81,-9.525 -1.81,-9.525 ; -1.81,-9.525 -0.603,-9.525 ; -1.81,-8.255 -1.81,-6.985 ; -1.81,-8.255 -0.603,-8.255 ; -1.81,-8.255 -1.81,-6.985 ; -1.81,-8.255 1.81,-8.255 1.81,-6.985 -1.81,-6.985 ; -1.81,-6.985 -0.603,-6.985 ; -1.81,-5.715 -1.81,-4.445 ; -1.81,-5.715 -0.603,-5.715 ; -1.81,-5.715 -1.81,-4.445 ; -1.81,-5.715 1.81,-5.715 1.81,-4.445 -1.81,-4.445 ; -1.81,-4.445 -0.603,-4.445 ; -1.81,-3.175 -1.81,-1.905 ; -1.81,-3.175 -0.603,-3.175 ; -1.81,-3.175 -1.81,-1.905 ; -1.81,-3.175 1.81,-3.175 1.81,-1.905 -1.81,-1.905 ; -1.81,-1.905 -0.603,-1.905 ; -1.81,-0.635 -1.81,0.635 ; -1.81,-0.635 -0.603,-0.635 ; -1.81,-0.635 -1.81,0.635 ; -1.81,-0.635 1.81,-0.635 1.81,0.635 -1.81,0.635 ; -1.81,0.635 -0.603,0.635 ; -1.81,1.905 -1.81,3.175 ; -1.81,1.905 -0.603,1.905 ; -1.81,1.905 -1.81,3.175 ; -1.81,1.905 1.81,1.905 1.81,3.175 -1.81,3.175 ; -1.81,3.175 -0.603,3.175 ; -1.81,4.445 -1.81,5.715 ; -1.81,4.445 -0.603,4.445 ; -1.81,4.445 -1.81,5.715 ; -1.81,4.445 1.81,4.445 1.81,5.715 -1.81,5.715 ; -1.81,5.715 -0.603,5.715 ; -1.81,6.985 -1.81,8.255 ; -1.81,6.985 -0.603,6.985 ; -1.81,6.985 -1.81,8.255 ; -1.81,6.985 1.81,6.985 1.81,8.255 -1.81,8.255 ; -1.81,8.255 -0.603,8.255 ; -1.81,9.525 -1.81,10.795 ; -1.81,9.525 -0.603,9.525 ; -1.81,9.525 -1.81,10.795 ; -1.81,9.525 1.81,9.525 1.81,10.795 -1.81,10.795 ; -1.81,10.795 -0.603,10.795 ; -0.603,-10.795 -0.603,-9.525 ; -0.603,-10.795 -0.603,-9.525 ; -0.603,-8.255 -0.603,-6.985 ; -0.603,-8.255 -0.603,-6.985 ; -0.603,-5.715 -0.603,-4.445 ; -0.603,-5.715 -0.603,-4.445 ; -0.603,-3.175 -0.603,-1.905 ; -0.603,-3.175 -0.603,-1.905 ; -0.603,-0.635 -0.603,0.635 ; -0.603,-0.635 -0.603,0.635 ; -0.603,1.905 -0.603,3.175 ; -0.603,1.905 -0.603,3.175 ; -0.603,4.445 -0.603,5.715 ; -0.603,4.445 -0.603,5.715 ; -0.603,6.985 -0.603,8.255 ; -0.603,6.985 -0.603,8.255 ; -0.603,9.525 -0.603,10.795 ; -0.603,9.525 -0.603,10.795 ; -3.35,-12.21 -3.35,11.21 -2.35,12.21 3.35,12.21 3.35,-12.21 -3.35,-12.21
  text "on" at 0.233,11.116 h0.8
Top Courtyard:
  lines w0.254: -4.7,-12.52 -4.7,12.52 4.7,12.52 4.7,-12.52 -4.7,-12.52
Top Designator:
  text ".Designator" at -3.305,0.925 h1.52
3D body "SW_DIP_SPSTx09_Slide_6.7x24.42mm_W6.73mm_P2.54mm_LowProfile_JPin.step": height 3.2, standoff -0.1, extent -3.45,-12.21 3.45,12.21

## SW_DIP_SPSTx09_Slide_6.7x24.42mm_W8.61mm_P2.54mm_LowProfile [mm] "SW_DIP_SPSTx09_Slide_6.7x24.42mm_W8.61mm_P2.54mm_LowProfile"
pads (18):
  rrect22% 2.44x1.12 smd: 1(-4.305,10.16) 2(-4.305,7.62) 3(-4.305,5.08) 4(-4.305,2.54) 5(-4.305,0) 6(-4.305,-2.54) 7(-4.305,-5.08) 8(-4.305,-7.62) 9(-4.305,-10.16) 10(4.305,-10.16) 11(4.305,-7.62) 12(4.305,-5.08) 13(4.305,-2.54) 14(4.305,0) 15(4.305,2.54) 16(4.305,5.08) 17(4.305,7.62) 18(4.305,10.16)
F.SilkS:
  lines w0.254: -3.65,11.127 -3.65,12.51 -2.267,12.51 ; -3.41,-10.96 -3.41,-12.27 3.41,-12.27 3.41,-10.96 ; -3.41,-9.36 -3.41,-8.42 ; -3.41,-6.82 -3.41,-5.88 ; -3.41,-4.28 -3.41,-3.34 ; -3.41,-1.74 -3.41,-0.8 ; -3.41,0.8 -3.41,1.74 ; -3.41,3.34 -3.41,4.28 ; -3.41,5.88 -3.41,6.82 ; -3.41,8.42 -3.41,9.36 ; -3.41,10.96 -3.41,12.27 3.41,12.27 3.41,10.96 ; 3.41,-9.36 3.41,-8.42 ; 3.41,-6.82 3.41,-5.88 ; 3.41,-4.28 3.41,-3.34 ; 3.41,-1.74 3.41,-0.8 ; 3.41,0.8 3.41,1.74 ; 3.41,3.34 3.41,4.28 ; 3.41,5.88 3.41,6.82 ; 3.41,8.42 3.41,9.36 ; -1.81,-10.795 -1.81,-9.525 ; -1.81,-10.795 -0.603,-10.795 ; -1.81,-10.795 -1.81,-9.525 ; -1.81,-10.795 1.81,-10.795 1.81,-9.525 -1.81,-9.525 ; -1.81,-9.525 -0.603,-9.525 ; -1.81,-8.255 -1.81,-6.985 ; -1.81,-8.255 -0.603,-8.255 ; -1.81,-8.255 -1.81,-6.985 ; -1.81,-8.255 1.81,-8.255 1.81,-6.985 -1.81,-6.985 ; -1.81,-6.985 -0.603,-6.985 ; -1.81,-5.715 -1.81,-4.445 ; -1.81,-5.715 -0.603,-5.715 ; -1.81,-5.715 -1.81,-4.445 ; -1.81,-5.715 1.81,-5.715 1.81,-4.445 -1.81,-4.445 ; -1.81,-4.445 -0.603,-4.445 ; -1.81,-3.175 -1.81,-1.905 ; -1.81,-3.175 -0.603,-3.175 ; -1.81,-3.175 -1.81,-1.905 ; -1.81,-3.175 1.81,-3.175 1.81,-1.905 -1.81,-1.905 ; -1.81,-1.905 -0.603,-1.905 ; -1.81,-0.635 -1.81,0.635 ; -1.81,-0.635 -0.603,-0.635 ; -1.81,-0.635 -1.81,0.635 ; -1.81,-0.635 1.81,-0.635 1.81,0.635 -1.81,0.635 ; -1.81,0.635 -0.603,0.635 ; -1.81,1.905 -1.81,3.175 ; -1.81,1.905 -0.603,1.905 ; -1.81,1.905 -1.81,3.175 ; -1.81,1.905 1.81,1.905 1.81,3.175 -1.81,3.175 ; -1.81,3.175 -0.603,3.175 ; -1.81,4.445 -1.81,5.715 ; -1.81,4.445 -0.603,4.445 ; -1.81,4.445 -1.81,5.715 ; -1.81,4.445 1.81,4.445 1.81,5.715 -1.81,5.715 ; -1.81,5.715 -0.603,5.715 ; -1.81,6.985 -1.81,8.255 ; -1.81,6.985 -0.603,6.985 ; -1.81,6.985 -1.81,8.255 ; -1.81,6.985 1.81,6.985 1.81,8.255 -1.81,8.255 ; -1.81,8.255 -0.603,8.255 ; -1.81,9.525 -1.81,10.795 ; -1.81,9.525 -0.603,9.525 ; -1.81,9.525 -1.81,10.795 ; -1.81,9.525 1.81,9.525 1.81,10.795 -1.81,10.795 ; -1.81,10.795 -0.603,10.795 ; -0.603,-10.795 -0.603,-9.525 ; -0.603,-10.795 -0.603,-9.525 ; -0.603,-8.255 -0.603,-6.985 ; -0.603,-8.255 -0.603,-6.985 ; -0.603,-5.715 -0.603,-4.445 ; -0.603,-5.715 -0.603,-4.445 ; -0.603,-3.175 -0.603,-1.905 ; -0.603,-3.175 -0.603,-1.905 ; -0.603,-0.635 -0.603,0.635 ; -0.603,-0.635 -0.603,0.635 ; -0.603,1.905 -0.603,3.175 ; -0.603,1.905 -0.603,3.175 ; -0.603,4.445 -0.603,5.715 ; -0.603,4.445 -0.603,5.715 ; -0.603,6.985 -0.603,8.255 ; -0.603,6.985 -0.603,8.255 ; -0.603,9.525 -0.603,10.795 ; -0.603,9.525 -0.603,10.795
Top Component Center:
  lines w0.127: -0.127,0 0.127,0 ; 0,-0.127 0,0.127
Top Assembly:
  lines w0.254: -1.81,-10.795 -1.81,-9.525 ; -1.81,-10.795 -0.603,-10.795 ; -1.81,-10.795 -1.81,-9.525 ; -1.81,-10.795 1.81,-10.795 1.81,-9.525 -1.81,-9.525 ; -1.81,-9.525 -0.603,-9.525 ; -1.81,-8.255 -1.81,-6.985 ; -1.81,-8.255 -0.603,-8.255 ; -1.81,-8.255 -1.81,-6.985 ; -1.81,-8.255 1.81,-8.255 1.81,-6.985 -1.81,-6.985 ; -1.81,-6.985 -0.603,-6.985 ; -1.81,-5.715 -1.81,-4.445 ; -1.81,-5.715 -0.603,-5.715 ; -1.81,-5.715 -1.81,-4.445 ; -1.81,-5.715 1.81,-5.715 1.81,-4.445 -1.81,-4.445 ; -1.81,-4.445 -0.603,-4.445 ; -1.81,-3.175 -1.81,-1.905 ; -1.81,-3.175 -0.603,-3.175 ; -1.81,-3.175 -1.81,-1.905 ; -1.81,-3.175 1.81,-3.175 1.81,-1.905 -1.81,-1.905 ; -1.81,-1.905 -0.603,-1.905 ; -1.81,-0.635 -1.81,0.635 ; -1.81,-0.635 -0.603,-0.635 ; -1.81,-0.635 -1.81,0.635 ; -1.81,-0.635 1.81,-0.635 1.81,0.635 -1.81,0.635 ; -1.81,0.635 -0.603,0.635 ; -1.81,1.905 -1.81,3.175 ; -1.81,1.905 -0.603,1.905 ; -1.81,1.905 -1.81,3.175 ; -1.81,1.905 1.81,1.905 1.81,3.175 -1.81,3.175 ; -1.81,3.175 -0.603,3.175 ; -1.81,4.445 -1.81,5.715 ; -1.81,4.445 -0.603,4.445 ; -1.81,4.445 -1.81,5.715 ; -1.81,4.445 1.81,4.445 1.81,5.715 -1.81,5.715 ; -1.81,5.715 -0.603,5.715 ; -1.81,6.985 -1.81,8.255 ; -1.81,6.985 -0.603,6.985 ; -1.81,6.985 -1.81,8.255 ; -1.81,6.985 1.81,6.985 1.81,8.255 -1.81,8.255 ; -1.81,8.255 -0.603,8.255 ; -1.81,9.525 -1.81,10.795 ; -1.81,9.525 -0.603,9.525 ; -1.81,9.525 -1.81,10.795 ; -1.81,9.525 1.81,9.525 1.81,10.795 -1.81,10.795 ; -1.81,10.795 -0.603,10.795 ; -0.603,-10.795 -0.603,-9.525 ; -0.603,-10.795 -0.603,-9.525 ; -0.603,-8.255 -0.603,-6.985 ; -0.603,-8.255 -0.603,-6.985 ; -0.603,-5.715 -0.603,-4.445 ; -0.603,-5.715 -0.603,-4.445 ; -0.603,-3.175 -0.603,-1.905 ; -0.603,-3.175 -0.603,-1.905 ; -0.603,-0.635 -0.603,0.635 ; -0.603,-0.635 -0.603,0.635 ; -0.603,1.905 -0.603,3.175 ; -0.603,1.905 -0.603,3.175 ; -0.603,4.445 -0.603,5.715 ; -0.603,4.445 -0.603,5.715 ; -0.603,6.985 -0.603,8.255 ; -0.603,6.985 -0.603,8.255 ; -0.603,9.525 -0.603,10.795 ; -0.603,9.525 -0.603,10.795 ; -3.35,-12.21 -3.35,11.21 -2.35,12.21 3.35,12.21 3.35,-12.21 -3.35,-12.21
  text "on" at -0.237,11.116 h0.8
Top Courtyard:
  lines w0.254: -5.78,-12.52 -5.78,12.52 5.78,12.52 5.78,-12.52 -5.78,-12.52
Top Designator:
  text ".Designator" at -3.432,0.925 h1.52
3D body "SW_DIP_SPSTx09_Slide_6.7x24.42mm_W8.61mm_P2.54mm_LowProfile.step": height 2.7, standoff 0, extent -4.432,-12.21 4.178,12.21